# Altium footprint library SOIC127P1035X255-20N.PcbLib: 1 footprints
Each footprint in its own frame and in the unit in brackets; x right, y up, seen from the top. Pads: shape width x height; smd on the part's side, far side on the other; paste and mask are expansions set on the pad; w line width, h text height; cw(c..) or ccw(c..) is an arc to the next point about the centre after c.
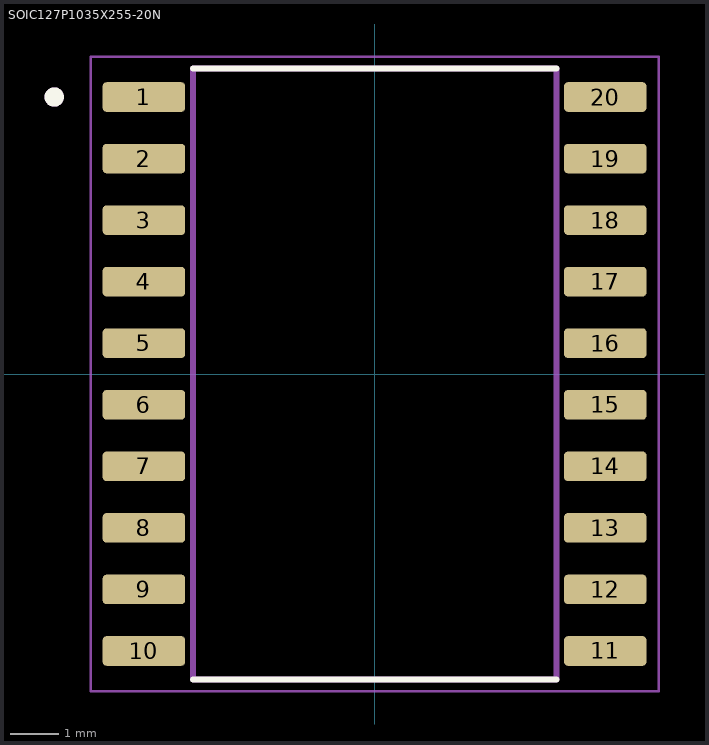
[diagram p0: the footprint, top view; thin cyan lines are the x and y axes]

## SOIC127P1035X255-20N [mm]
height 2.55
pads (20):
  rrect25% 1.7x0.61 smd: 1(-4.76,5.715) 2(-4.76,4.445) 3(-4.76,3.175) 4(-4.76,1.905) 5(-4.76,0.635) 6(-4.76,-0.635) 7(-4.76,-1.905) 8(-4.76,-3.175) 9(-4.76,-4.445) 10(-4.76,-5.715) 11(4.76,-5.715) 12(4.76,-4.445) 13(4.76,-3.175) 14(4.76,-1.905) 15(4.76,-0.635) 16(4.76,0.635) 17(4.76,1.905) 18(4.76,3.175) 19(4.76,4.445) 20(4.76,5.715)
Top Overlay:
  circle w0.2: c-6.61,5.715 r0.1
  lines w0.127: -3.75,-6.3 3.75,-6.3 ; -3.75,6.3 3.75,6.3
Mechanical 13:
  circle w0.2: c-6.61,5.715 r0.1
  lines w0.127: -3.75,-6.3 3.75,-6.3 3.75,6.3 -3.75,6.3 -3.75,-6.3
Mechanical 15:
  lines w0.05: -5.86,-6.55 -5.86,6.55 5.86,6.55 5.86,-6.55 -5.86,-6.55
3D body "step_temp.STEP": height 2.55, standoff 0, extent -5.175,-6.3 5.175,6.3